# EAGLE library part DS1044-140G (library DS1044-140G)
Check availability <https://pricing.snapeda.com/parts/DS1044-140G/Connfly/view-part?ref=eda>
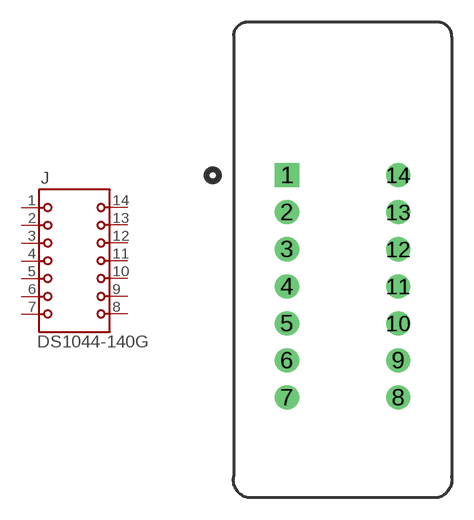
[diagram p0: symbol with the pads of CONNFLY_DS1044-140G; footprint CONNFLY_DS1044-140G]

Designator prefix J

## DS1044-140G (AVAILABILITY: Not in stock; CHECK_PRICES: https://www.snapeda.com/parts/DS1044-140G/Connfly/view-part/?ref=eda; DESCRIPTION: Socket: DIP; ZIF; PIN: 14; 7.62mm; demountable; -40÷105°C; THT; 50VDC; MF: Connfly; MP: DS1044-140G; PACKAGE: None; PRICE: None; SNAPEDA_LINK: https://www.snapeda.com/parts/DS1044-140G/Connfly/view-part/?ref=snap)  [CONNFLY_DS1044-140G]
1  1  pas
2  2  pas
3  3  pas
4  4  pas
5  5  pas
6  6  pas
7  7  pas
8  8  pas
9  9  pas
10  10  pas
11  11  pas
12  12  pas
13  13  pas
14  14  pas

## Footprint CONNFLY_DS1044-140G (pad centres in mm)
drill 1.1 square: 1 -3.81,7.62
drill 1.1: 2 -3.81,5.08; 3 -3.81,2.54; 4 -3.81,0; 5 -3.81,-2.54; 6 -3.81,-5.08; 7 -3.81,-7.62; 8 3.81,-7.62; 9 3.81,-5.08; 10 3.81,-2.54; 11 3.81,0; 12 3.81,2.54; 13 3.81,5.08; 14 3.81,7.62